# EAGLE library part AD8332ACPZ-R7 (library ad8332)
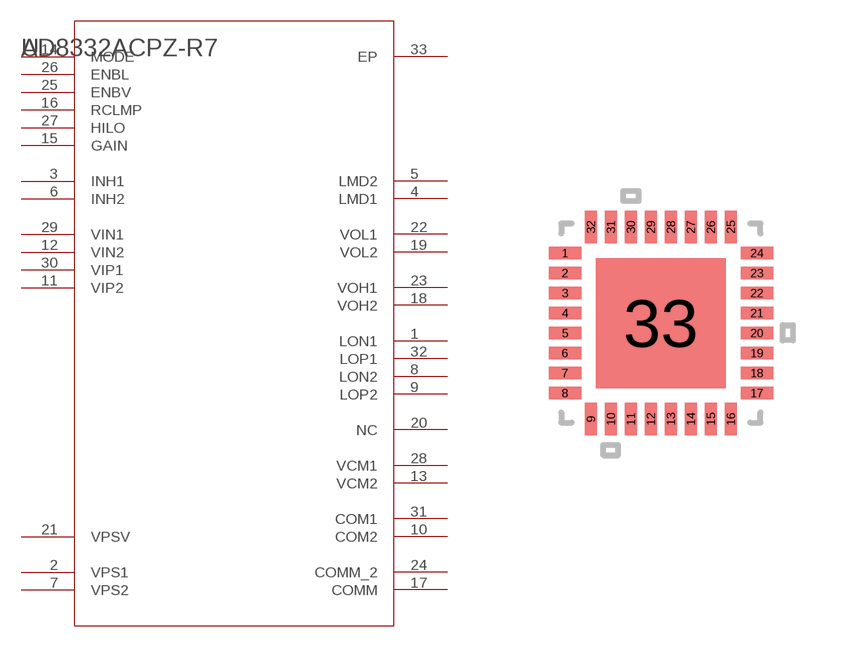
[diagram p0: symbol with the pads of CP_32_2; footprint CP_32_2]

Designator prefix U

## AD8332ACPZ-R7 (MANUFACTURER_PART_NUMBER: AD8332ACPZ-R7; VENDOR: Vendor)  [CP_32_2]
1  LON1  pas
2  VPS1  pas
3  INH1  pwr
4  LMD1  pas
5  LMD2  pas
6  INH2  pas
7  VPS2  pas
8  LON2  pas
9  LOP2  pas
10  COM2  pas
11  VIP2  pas
12  VIN2  pas
13  VCM2  pas
14  MODE  pas
15  GAIN  pwr
16  RCLMP  pas
17  COMM  pas
18  VOH2  pas
19  VOL2  pas
20  NC  pas
21  VPSV  pas
22  VOL1  pas
23  VOH1  pas
24  COMM_2  pas
25  ENBV  pas
26  ENBL  pwr
27  HILO  pas
28  VCM1  pas
29  VIN1  pas
30  VIP1  pas
31  COM1  pas
32  LOP1  pas
33  EP  pas

## Footprint CP_32_2 (pad centres in mm)
smd 0.813 x 0.305: 1 -2.4,1.75; 2 -2.4,1.25; 3 -2.4,0.75; 4 -2.4,0.25; 5 -2.4,-0.25; 6 -2.4,-0.75; 7 -2.4,-1.25; 8 -2.4,-1.75; 17 2.4,-1.75; 18 2.4,-1.25; 19 2.4,-0.75; 20 2.4,-0.25; 21 2.4,0.25; 22 2.4,0.75; 23 2.4,1.25; 24 2.4,1.75
smd 0.305 x 0.813: 9 -1.75,-2.4; 10 -1.25,-2.4; 11 -0.75,-2.4; 12 -0.25,-2.4; 13 0.25,-2.4; 14 0.75,-2.4; 15 1.25,-2.4; 16 1.75,-2.4; 25 1.75,2.4; 26 1.25,2.4; 27 0.75,2.4; 28 0.25,2.4; 29 -0.25,2.4; 30 -0.75,2.4; 31 -1.25,2.4; 32 -1.75,2.4
smd 3.251 x 3.251: 33 0,0